# EAGLE library part MP2639A (library geusebio)
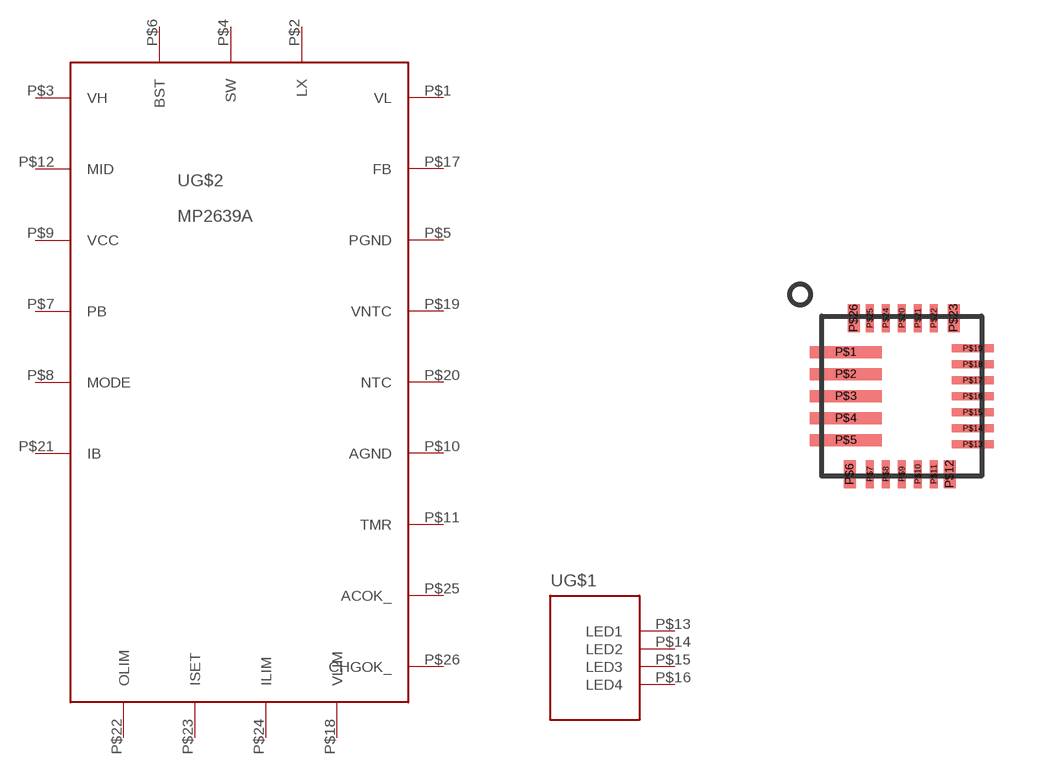
[diagram p12: symbol with the pads of M2639A; footprint M2639A]

Designator prefix -; gates G$1=MP2639A_LEDS G$2=MP2639A_MAIN

## MP2639A  [M2639A]
P$1  G$2:VL
P$2  G$2:LX
P$3  G$2:VH
P$4  G$2:SW
P$5  G$2:PGND
P$6  G$2:BST
P$7  G$2:PB
P$8  G$2:MODE
P$9  G$2:VCC
P$10  G$2:AGND
P$11  G$2:TMR
P$12  G$2:MID
P$13  G$1:LED1
P$14  G$1:LED2
P$15  G$1:LED3
P$16  G$1:LED4
P$17  G$2:FB
P$18  G$2:VLIM
P$19  G$2:VNTC
P$20  G$2:NTC
P$21  G$2:IB
P$22  G$2:OLIM
P$23  G$2:ISET
P$24  G$2:ILIM
P$25  G$2:ACOK_
P$26  G$2:CHGOK_

## Footprint M2639A (pad centres in mm)
smd 1.8 x 0.3: P$1 -1.4,1.1; P$2 -1.4,0.55; P$3 -1.4,0; P$4 -1.4,-0.55; P$5 -1.4,-1.1
smd 0.3 x 0.7: P$6 -1.3,-1.95; P$12 1.2,-1.95; P$23 1.3,1.95; P$26 -1.2,1.95
smd 0.2 x 0.7: P$7 -0.8,-1.95; P$8 -0.4,-1.95; P$9 0,-1.95; P$10 0.4,-1.95; P$11 0.8,-1.95; P$20 0,1.95; P$21 0.4,1.95; P$22 0.8,1.95; P$24 -0.4,1.95; P$25 -0.8,1.95
smd 1.05 x 0.2: P$13 1.775,-1.2; P$14 1.775,-0.8; P$15 1.775,-0.4; P$16 1.775,0; P$17 1.775,0.4; P$18 1.775,0.8; P$19 1.775,1.2